# EAGLE library part MC74HC4316A (library moth)
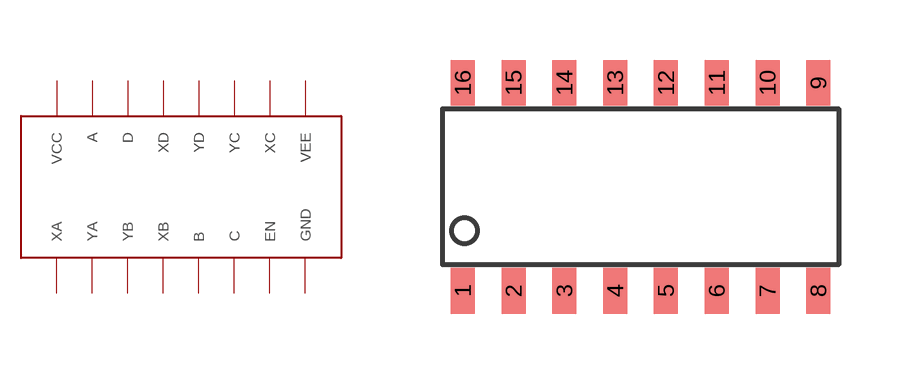
[diagram p6: symbol with the pads of SOIC-16-ON-SEMI; footprint SOIC-16-ON-SEMI]

Designator prefix -

## MC74HC4316A  [SOIC-16-ON-SEMI]
1  XA  in
2  YA  out
3  YB  out
4  XB  in
5  B  in
6  C  in
7  EN  in
8  GND  pwr
9  VEE  pwr
10  XC  in
11  YC  out
12  YD  out
13  XD  in
14  D  in
15  A  in
16  VCC  pwr

## Footprint SOIC-16-ON-SEMI (pad centres in mm)
smd 0.6 x 1.15: 1 -4.445,-2.6; 2 -3.175,-2.6; 3 -1.905,-2.6; 4 -0.635,-2.6; 5 0.635,-2.6; 6 1.905,-2.6; 7 3.175,-2.6; 8 4.445,-2.6; 9 4.445,2.6; 10 3.175,2.6; 11 1.905,2.6; 12 0.635,2.6; 13 -0.635,2.6; 14 -1.905,2.6; 15 -3.175,2.6; 16 -4.445,2.6